# Altium footprint library 39-30-1060.PcbLib: 1 footprints
Each footprint in its own frame and in the unit in brackets; x right, y up, seen from the top. Pads: shape width x height; smd on the part's side, far side on the other; paste and mask are expansions set on the pad; w line width, h text height; cw(c..) or ccw(c..) is an arc to the next point about the centre after c.
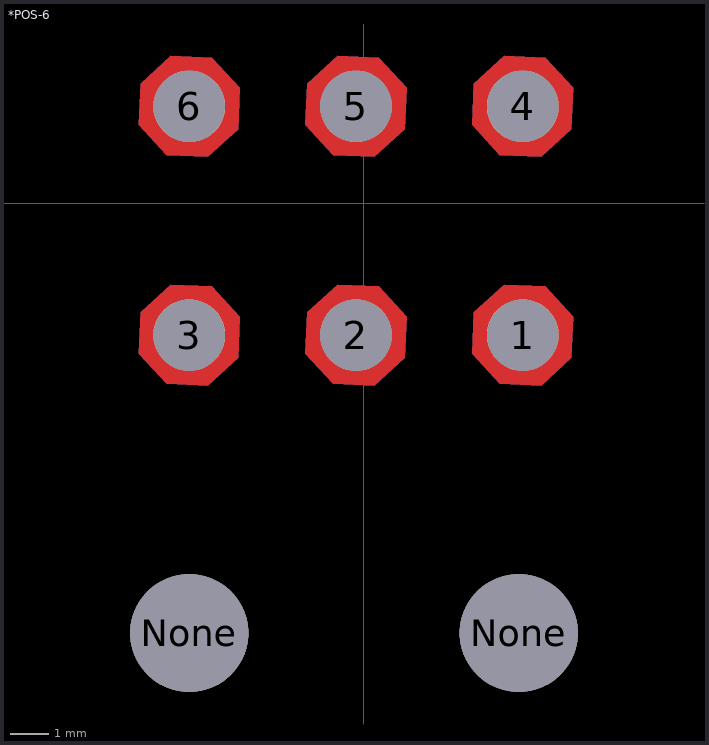
[diagram p0: the footprint, top view; thin cyan lines are the x and y axes]

## *POS-6 [mm]
pads (8):
  round 1.85 hole 1.85: 1(4.1,-3.4) 2(-0.2,-3.4) 3(-4.5,-3.4) 4(4.1,2.5) 5(-0.2,2.5) 6(-4.5,2.5)
  round 3.05 hole 3.05 unplated: None(-4.501,-11.084) None(3.999,-11.084)
Top Layer:
  region: 5.404,-2.925 4.686,-2.143 3.625,-2.096 2.842,-2.814 2.796,-3.875 3.514,-4.658 4.575,-4.704 5.358,-3.986
  region: 1.104,-2.925 0.386,-2.143 -0.675,-2.096 -1.458,-2.814 -1.504,-3.875 -0.786,-4.658 0.275,-4.704 1.058,-3.986
  region: -3.196,-2.925 -3.914,-2.143 -4.975,-2.096 -5.758,-2.814 -5.804,-3.875 -5.086,-4.658 -4.025,-4.704 -3.243,-3.986
  region: 5.404,2.975 4.686,3.758 3.625,3.804 2.842,3.086 2.796,2.025 3.514,1.242 4.575,1.196 5.358,1.914
  region: 1.104,2.975 0.386,3.758 -0.675,3.804 -1.458,3.086 -1.504,2.025 -0.786,1.242 0.275,1.196 1.058,1.914
  region: -3.196,2.975 -3.914,3.758 -4.975,3.804 -5.758,3.086 -5.804,2.025 -5.086,1.242 -4.025,1.196 -3.243,1.914
Bottom Layer:
  region: 5.404,-2.925 4.686,-2.143 3.625,-2.096 2.842,-2.814 2.796,-3.875 3.514,-4.658 4.575,-4.704 5.358,-3.986
  region: 1.104,-2.925 0.386,-2.143 -0.675,-2.096 -1.458,-2.814 -1.504,-3.875 -0.786,-4.658 0.275,-4.704 1.058,-3.986
  region: -3.196,-2.925 -3.914,-2.143 -4.975,-2.096 -5.758,-2.814 -5.804,-3.875 -5.086,-4.658 -4.025,-4.704 -3.243,-3.986
  region: 5.404,2.975 4.686,3.758 3.625,3.804 2.842,3.086 2.796,2.025 3.514,1.242 4.575,1.196 5.358,1.914
  region: 1.104,2.975 0.386,3.758 -0.675,3.804 -1.458,3.086 -1.504,2.025 -0.786,1.242 0.275,1.196 1.058,1.914
  region: -3.196,2.975 -3.914,3.758 -4.975,3.804 -5.758,3.086 -5.804,2.025 -5.086,1.242 -4.025,1.196 -3.243,1.914
Multi-Layer:
  region: 5.404,-2.925 4.686,-2.143 3.625,-2.096 2.842,-2.814 2.796,-3.875 3.514,-4.658 4.575,-4.704 5.358,-3.986
  region: 1.104,-2.925 0.386,-2.143 -0.675,-2.096 -1.458,-2.814 -1.504,-3.875 -0.786,-4.658 0.275,-4.704 1.058,-3.986
  region: -3.196,-2.925 -3.914,-2.143 -4.975,-2.096 -5.758,-2.814 -5.804,-3.875 -5.086,-4.658 -4.025,-4.704 -3.243,-3.986
  region: 5.404,2.975 4.686,3.758 3.625,3.804 2.842,3.086 2.796,2.025 3.514,1.242 4.575,1.196 5.358,1.914
  region: 1.104,2.975 0.386,3.758 -0.675,3.804 -1.458,3.086 -1.504,2.025 -0.786,1.242 0.275,1.196 1.058,1.914
  region: -3.196,2.975 -3.914,3.758 -4.975,3.804 -5.758,3.086 -5.804,2.025 -5.086,1.242 -4.025,1.196 -3.243,1.914